# Altium footprint library HDRV6W64P254_3X2_762X508H1100N.PcbLib: 1 footprints
Each footprint in its own frame and in the unit in brackets; x right, y up, seen from the top. Pads: shape width x height; smd on the part's side, far side on the other; paste and mask are expansions set on the pad; w line width, h text height; cw(c..) or ccw(c..) is an arc to the next point about the centre after c.
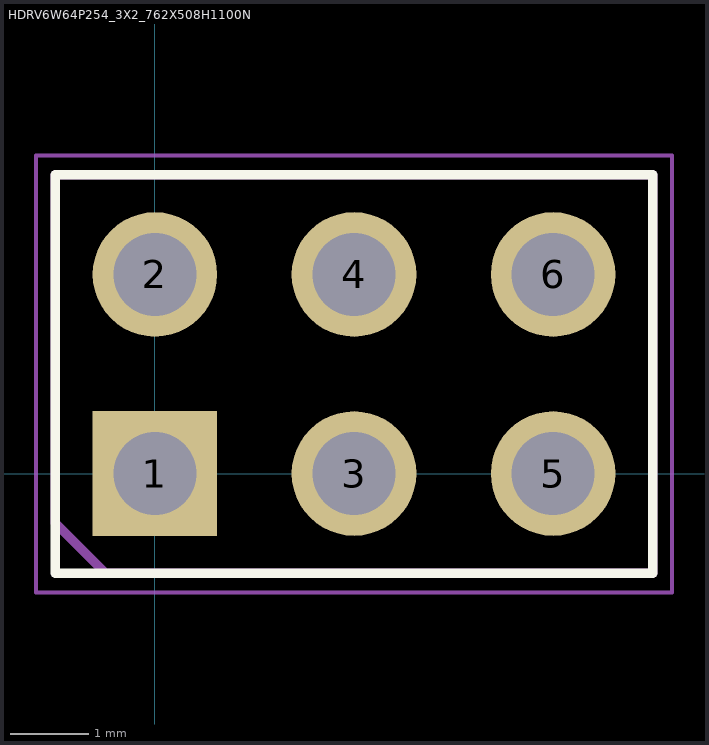
[diagram p0: the footprint, top view; thin cyan lines are the x and y axes]

## HDRV6W64P254_3X2_762X508H1100N [mm] "Header, Vertical, 2.54 mm pitch; 0.64 mm lead width, 6 pins, 2 rows, 3 pins per row, 7.62 mm L X 5.08 mm W X 11.00 mm H body"
height 11
pads (6):
  rect 1.59x1.59 hole 1.06 paste-1.59: 1(0,0)
  round 1.59 hole 1.06 paste-1.59: 2(0,2.54) 3(2.54,0) 4(2.54,2.54) 5(5.08,0) 6(5.08,2.54)
Top Overlay:
  lines w0.12: -1.27,-1.27 6.35,-1.27 6.35,3.81 -1.27,3.81 -1.27,-1.27
Mechanical 3:
  lines w0.12: -1.27,-0.635 -0.635,-1.27 6.35,-1.27 6.35,3.81 -1.27,3.81 -1.27,-0.635
Mechanical 5:
  lines w0.025: -1.27,-1.27 6.35,-1.27 6.35,3.81 -1.27,3.81 -1.27,-1.27 ; -0.32,-0.32 0.32,-0.32 0.32,0.32 -0.32,0.32 -0.32,-0.32 ; -0.32,2.22 0.32,2.22 0.32,2.86 -0.32,2.86 -0.32,2.22 ; 2.22,-0.32 2.86,-0.32 2.86,0.32 2.22,0.32 2.22,-0.32 ; 2.22,2.22 2.86,2.22 2.86,2.86 2.22,2.86 2.22,2.22 ; 4.76,-0.32 5.4,-0.32 5.4,0.32 4.76,0.32 4.76,-0.32 ; 4.76,2.22 5.4,2.22 5.4,2.86 4.76,2.86 4.76,2.22
Mechanical 7:
  circle w0.05: c0,0 r0.25
  lines w0.05: -0.35,0 0.35,0 ; 0,-0.35 0,0.35 ; -1.52,-1.52 6.6,-1.52 6.6,4.06 -1.52,4.06 -1.52,-1.52
Mechanical 9:
  text "'.Designator'" at -3.048,0.889 h1
3D body "HDRV6W64P254_3X2_762X508H1100.STEP": height 11, standoff -2.3, extent -1.27,-1.27 6.35,3.81
3D body: height 1, standoff 0, extent -1.524,-1.524 6.604,4.064
3D body: height 1.04, standoff 0, extent -1.52,-1.52 6.6,4.06